# EAGLE library part GE864/V2-GPS (library telit-modules)
Telit GE864-QUAD_V2 and GE864-GPS
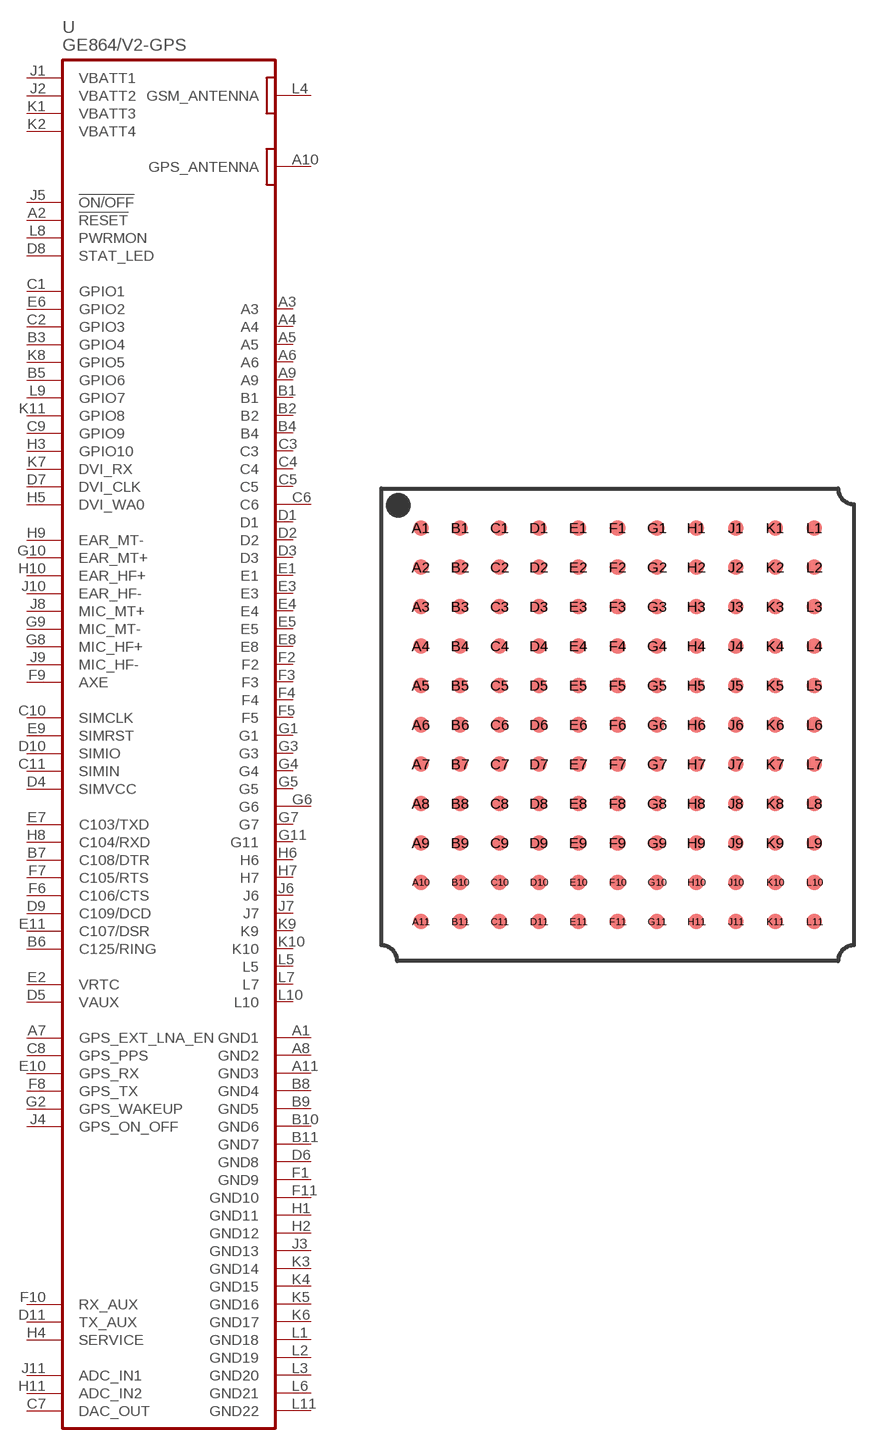
[diagram p8: symbol with the pads of GE864; footprint GE864]

Designator prefix -

## GE864/V2-GPS  [GE864]
A1  GND1  pwr
A2  !RESET  in
A3  A3  pas
A4  A4  pas
A5  A5  pas
A6  A6  pas
A7  GPS_EXT_LNA_EN  out
A8  GND2  pwr
A9  A9  pas
A10  GPS_ANTENNA  in
A11  GND3  pwr
B1  B1  pas
B2  B2  pas
B3  GPIO4
B4  B4  pas
B5  GPIO6
B6  C125/RING  out
B7  C108/DTR  in
B8  GND4  pwr
B9  GND5  pwr
B10  GND6  pwr
B11  GND7  pwr
C1  GPIO1
C2  GPIO3
C3  C3  pas
C4  C4  pas
C5  C5  pas
C6  C6  pas
C7  DAC_OUT  out
C8  GPS_PPS  out
C9  GPIO9
C10  SIMCLK  out
C11  SIMIN  in
D1  D1  pas
D2  D2  pas
D3  D3  pas
D4  SIMVCC  pas
D5  VAUX  pas
D6  GND8  pwr
D7  DVI_CLK
D8  STAT_LED  out
D9  C109/DCD  out
D10  SIMIO
D11  TX_AUX  out
E1  E1  pas
E2  VRTC  pas
E3  E3  pas
E4  E4  pas
E5  E5  pas
E6  GPIO2
E7  C103/TXD  in
E8  E8  pas
E9  SIMRST  out
E10  GPS_RX  in
E11  C107/DSR  out
F1  GND9  pwr
F2  F2  pas
F3  F3  pas
F4  F4  pas
F5  F5  pas
F6  C106/CTS  out
F7  C105/RTS  in
F8  GPS_TX  out
F9  AXE  in
F10  RX_AUX  in
F11  GND10  pwr
G1  G1  pas
G2  GPS_WAKEUP  out
G3  G3  pas
G4  G4  pas
G5  G5  pas
G6  G6  pas
G7  G7  pas
G8  MIC_HF+  pas
G9  MIC_MT-  pas
G10  EAR_MT+  pas
G11  G11  pas
H1  GND11  pwr
H2  GND12  pwr
H3  GPIO10
H4  SERVICE  in
H5  DVI_WA0
H6  H6  pas
H7  H7  pas
H8  C104/RXD  out
H9  EAR_MT-  pas
H10  EAR_HF+  pas
H11  ADC_IN2  in
J1  VBATT1  pwr
J2  VBATT2  pwr
J3  GND13  pwr
J4  GPS_ON_OFF  in
J5  !ON/OFF  in
J6  J6  pas
J7  J7  pas
J8  MIC_MT+  pas
J9  MIC_HF-  pas
J10  EAR_HF-  pas
J11  ADC_IN1  in
K1  VBATT3  pwr
K2  VBATT4  pwr
K3  GND14  pwr
K4  GND15  pwr
K5  GND16  pwr
K6  GND17  pwr
K7  DVI_RX
K8  GPIO5
K9  K9  pas
K10  K10  pas
K11  GPIO8
L1  GND18  pwr
L2  GND19  pwr
L3  GND20  pwr
L4  GSM_ANTENNA  in
L5  L5  pas
L6  GND21  pwr
L7  L7  pas
L8  PWRMON
L9  GPIO7
L10  L10  pas
L11  GND22  pwr

## Footprint GE864 (pad centres in mm)
smd 1 x 1: A1 -12.5,12.5; A2 -12.5,10; A3 -12.5,7.5; A4 -12.5,5; A5 -12.5,2.5; A6 -12.5,0; A7 -12.5,-2.5; A8 -12.5,-5; A9 -12.5,-7.5; A10 -12.5,-10; A11 -12.5,-12.5; B1 -10,12.5; B2 -10,10; B3 -10,7.5; B4 -10,5; B5 -10,2.5; B6 -10,0; B7 -10,-2.5; B8 -10,-5; B9 -10,-7.5; B10 -10,-10; B11 -10,-12.5; C1 -7.5,12.5; C2 -7.5,10; C3 -7.5,7.5; C4 -7.5,5; C5 -7.5,2.5; C6 -7.5,0; C7 -7.5,-2.5; C8 -7.5,-5; C9 -7.5,-7.5; C10 -7.5,-10; C11 -7.5,-12.5; D1 -5,12.5; D2 -5,10; D3 -5,7.5; D4 -5,5; D5 -5,2.5; D6 -5,0; D7 -5,-2.5; D8 -5,-5; D9 -5,-7.5; D10 -5,-10; D11 -5,-12.5; E1 -2.5,12.5; E2 -2.5,10; E3 -2.5,7.5; E4 -2.5,5; E5 -2.5,2.5; E6 -2.5,0; E7 -2.5,-2.5; E8 -2.5,-5; E9 -2.5,-7.5; E10 -2.5,-10; E11 -2.5,-12.5; F1 0,12.5; F2 0,10; F3 0,7.5; F4 0,5; F5 0,2.5; F6 0,0; F7 0,-2.5; F8 0,-5; F9 0,-7.5; F10 0,-10; F11 0,-12.5; G1 2.5,12.5; G2 2.5,10; G3 2.5,7.5; G4 2.5,5; G5 2.5,2.5; G6 2.5,0; G7 2.5,-2.5; G8 2.5,-5; G9 2.5,-7.5; G10 2.5,-10; G11 2.5,-12.5; H1 5,12.5; H2 5,10; H3 5,7.5; H4 5,5; H5 5,2.5; H6 5,0; H7 5,-2.5; H8 5,-5; H9 5,-7.5; H10 5,-10; H11 5,-12.5; J1 7.5,12.5; J2 7.5,10; J3 7.5,7.5; J4 7.5,5; J5 7.5,2.5; J6 7.5,0; J7 7.5,-2.5; J8 7.5,-5; J9 7.5,-7.5; J10 7.5,-10; J11 7.5,-12.5; K1 10,12.5; K2 10,10; K3 10,7.5; K4 10,5; K5 10,2.5; K6 10,0; K7 10,-2.5; K8 10,-5; K9 10,-7.5; K10 10,-10; K11 10,-12.5; L1 12.5,12.5; L2 12.5,10; L3 12.5,7.5; L4 12.5,5; L5 12.5,2.5; L6 12.5,0; L7 12.5,-2.5; L8 12.5,-5; L9 12.5,-7.5; L10 12.5,-10; L11 12.5,-12.5